# EAGLE library part 613044243121 (library Board_to_Board_Connectors_rev15d)
WR-PHD Angled Dual Socket Header, 40 Pins =>Code : Con_BTB_SHD_2.54_2_613040243121 <http://katalog.we-online.de/media/images/eican/Con_BTB_SHD_2.54_2_6130xx243121_pf2.jpg> Details see: http://katalog.we-online.de/en/em/613_0xx_243_121 Created 2014-05-30, Karrer Zheng 2014 (C) Würth Elektronik
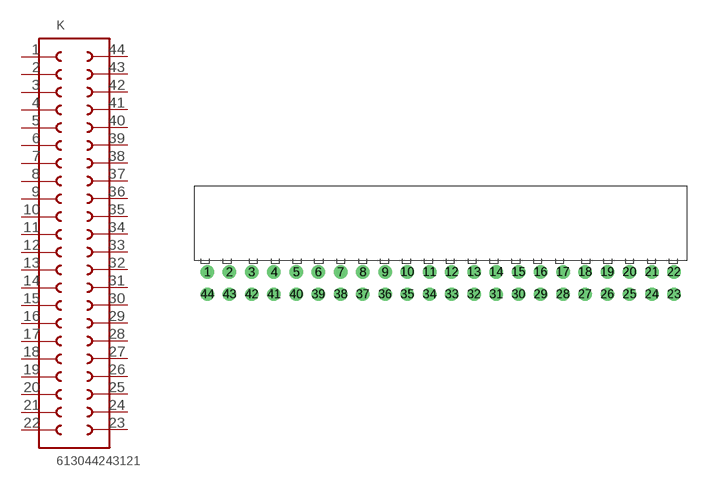
[diagram p151: symbol with the pads of 613044243121; footprint 613044243121]

Designator prefix K

## 613044243121  [613044243121]
1  1  pas
2  2  pas
3  3  pas
4  4  pas
5  5  pas
6  6  pas
7  7  pas
8  8  pas
9  9  pas
10  10  pas
11  11  pas
12  12  pas
13  13  pas
14  14  pas
15  15  pas
16  16  pas
17  17  pas
18  18  pas
19  19  pas
20  20  pas
21  21  pas
22  22  pas
23  23  pas
24  24  pas
25  25  pas
26  26  pas
27  27  pas
28  28  pas
29  29  pas
30  30  pas
31  31  pas
32  32  pas
33  33  pas
34  34  pas
35  35  pas
36  36  pas
37  37  pas
38  38  pas
39  39  pas
40  40  pas
41  41  pas
42  42  pas
43  43  pas
44  44  pas

## Footprint 613044243121 (pad centres in mm)
WR-PHD Angled Dual Socket Header, 44 Pins
drill 1.02: 1 -26.67,0; 2 -24.13,0; 3 -21.59,0; 4 -19.05,0; 5 -16.51,0; 6 -13.97,0; 7 -11.43,0; 8 -8.89,0; 9 -6.35,0; 10 -3.81,0; 11 -1.27,0; 12 1.27,0; 13 3.81,0; 14 6.35,0; 15 8.89,0; 16 11.43,0; 17 13.97,0; 18 16.51,0; 19 19.05,0; 20 21.59,0; 21 24.13,0; 22 26.67,0; 23 26.67,-2.54; 24 24.13,-2.54; 25 21.59,-2.54; 26 19.05,-2.54; 27 16.51,-2.54; 28 13.97,-2.54; 29 11.43,-2.54; 30 8.89,-2.54; 31 6.35,-2.54; 32 3.81,-2.54; 33 1.27,-2.54; 34 -1.27,-2.54; 35 -3.81,-2.54; 36 -6.35,-2.54; 37 -8.89,-2.54; 38 -11.43,-2.54; 39 -13.97,-2.54; 40 -16.51,-2.54; 41 -19.05,-2.54; 42 -21.59,-2.54; 43 -24.13,-2.54; 44 -26.67,-2.54